# Altium schematic symbol library ANX58XX.SchLib: 2 symbols
Pins are listed as number, name and electrical type; pins without a type are passive.

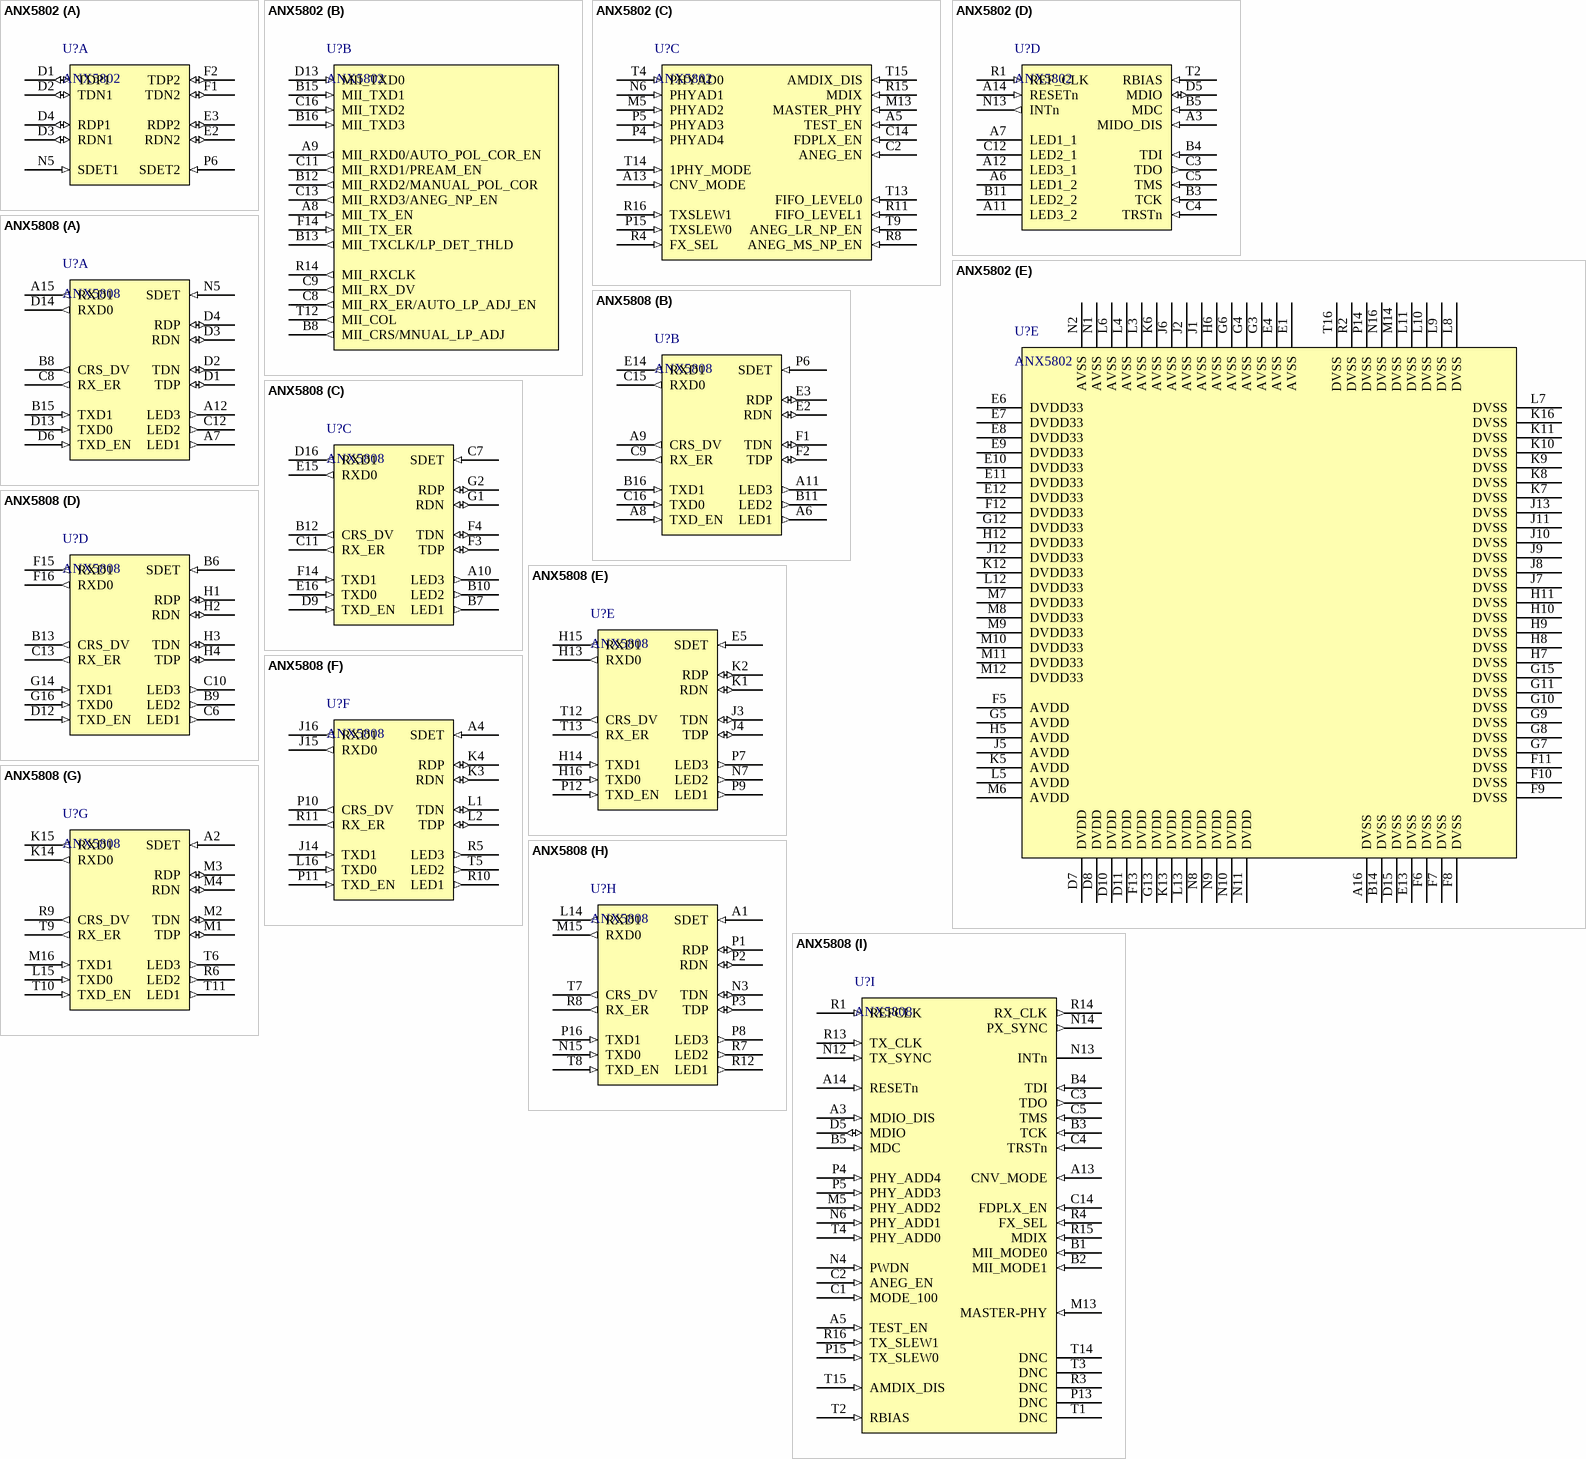
[diagram p0: symbols ANX5802 to ANX5808]

## ANX5802
designator U?
footprint 256BGA (BGA FOR ANX58XX)
part A pins: D1 TDP1 (io), D2 TDN1 (io), D3 RDN1 (io), D4 RDP1 (io), E2 RDN2 (io), E3 RDP2 (io), F1 TDN2 (io), F2 TDP2 (io), N5 SDET1 (in), P6 SDET2 (in)
part B pins: A8 MII_TX_EN (in), A9 MII_RXD0/AUTO_POL_COR_EN (out), B8 MII_CRS/MNUAL_LP_ADJ (out), B12 MII_RXD2/MANUAL_POL_COR (out), B13 MII_TXCLK/LP_DET_THLD (out), B15 MII_TXD1 (in), B16 MII_TXD3 (in), C8 MII_RX_ER/AUTO_LP_ADJ_EN (out), C9 MII_RX_DV (out), C11 MII_RXD1/PREAM_EN (out), C13 MII_RXD3/ANEG_NP_EN (out), C16 MII_TXD2 (in), D13 MII_TXD0 (in), F14 MII_TX_ER (in), R14 MII_RXCLK (out), T12 MII_COL (out)
part C pins: A5 TEST_EN (in), A13 CNV_MODE (in), C2 ANEG_EN (in), C14 FDPLX_EN (in), M5 PHYAD2 (in), M13 MASTER_PHY (in), N6 PHYAD1 (in), P4 PHYAD4 (in), P5 PHYAD3 (in), P15 TXSLEW0 (in), R4 FX_SEL (in), R8 ANEG_MS_NP_EN (in), R11 FIFO_LEVEL1 (in), R15 MDIX (in), R16 TXSLEW1 (in), T4 PHYAD0 (in), T9 ANEG_LR_NP_EN (in), T13 FIFO_LEVEL0 (in), T14 1PHY_MODE (in), T15 AMDIX_DIS (in)
part D pins: A3 MIDO_DIS (in), A6 LED1_2 (oc), A7 LED1_1 (oc), A11 LED3_2 (oc), A12 LED3_1 (oc), A14 RESETn (in), B3 TCK (in), B4 TDI (in), B5 MDC (in), B11 LED2_2 (oc), C3 TDO (out), C4 TRSTn (in), C5 TMS (in), C12 LED2_1 (oc), D5 MDIO (io), N13 INTn (out), R1 REF_CLK (in), T2 RBIAS (in)
part E pins: A1 DNC (hiz) hidden, A2 DNC (hiz) hidden, A4 DNC (hiz) hidden, A10 DNC (hiz) hidden, A15 DNC (hiz) hidden, A16 DVSS (power), B1 DNC (hiz) hidden, B2 DNC (hiz) hidden, B6 DNC (hiz) hidden, B7 DNC (hiz) hidden, B9 DNC (hiz) hidden, B10 DNC (hiz) hidden, B14 DVSS (power), C6 DNC (hiz) hidden, C7 DNC (hiz) hidden, C10 DNC (hiz) hidden, C15 DNC (hiz) hidden, D6 DNC (hiz) hidden, D7 DVDD (power), D8 DVDD (power), D9 DNC (hiz) hidden, D10 DVDD (power), D11 DVDD (power), D12 DNC (hiz) hidden, D14 DNC (hiz) hidden, D15 DVSS (power), D16 DNC (hiz) hidden, E1 AVSS (power), E4 AVSS (power), E5 DNC (hiz) hidden, E6 DVDD33 (power), E7 DVDD33 (power), E8 DVDD33 (power), E9 DVDD33 (power), E10 DVDD33 (power), E11 DVDD33 (power), E12 DVDD33 (power), E13 DVSS (power), E14 DNC (hiz) hidden, E15 DNC (hiz) hidden, E16 DNC (hiz) hidden, F3 DNC (hiz) hidden, F4 DNC (hiz) hidden, F5 AVDD (power), F6 DVSS (power), F7 DVSS (power), F8 DVSS (power), F9 DVSS (power), F10 DVSS (power), F11 DVSS (power), F12 DVDD33 (power), F13 DVDD (power), F15 DNC (hiz) hidden, F16 DNC (hiz) hidden, G1 DNC (hiz) hidden, G2 DNC (hiz) hidden, G3 AVSS (power), G4 AVSS (power), G5 AVDD (power), G6 AVSS (power), G7 DVSS (power), G8 DVSS (power), G9 DVSS (power), G10 DVSS (power), G11 DVSS (power), G12 DVDD33 (power), G13 DVDD (power), G14 DNC (hiz) hidden, G15 DVSS (power), G16 DNC (hiz) hidden, H1 DNC (hiz) hidden, H2 DNC (hiz) hidden, H3 DNC (hiz) hidden, H4 DNC (hiz) hidden, H5 AVDD (power), H6 AVSS (power), H7 DVSS (power), H8 DVSS (power), H9 DVSS (power), H10 DVSS (power), H11 DVSS (power), H12 DVDD33 (power), H13 DNC (hiz) hidden, H14 DNC (hiz) hidden, H15 DNC (hiz) hidden, H16 DNC (hiz) hidden, J1 AVSS (power), J2 AVSS (power), J3 DNC (hiz) hidden, J4 DNC (hiz) hidden, J5 AVDD (power), J6 AVSS (power), J7 DVSS (power), J8 DVSS (power), J9 DVSS (power), J10 DVSS (power), J11 DVSS (power), J12 DVDD33 (power), J13 DVSS (power), J14 DNC (hiz) hidden, J15 DNC (hiz) hidden, J16 DNC (hiz) hidden, K1 DNC (hiz) hidden, K2 DNC (hiz) hidden, K3 DNC (hiz) hidden, K4 DNC (hiz) hidden, K5 AVDD (power), K6 AVSS (power), K7 DVSS (power), K8 DVSS (power), K9 DVSS (power), K10 DVSS (power), K11 DVSS (power), K12 DVDD33 (power), K13 DVDD (power), K14 DNC (hiz) hidden, K15 DNC (hiz) hidden, K16 DVSS (power), L1 DNC (hiz) hidden, L2 DNC (hiz) hidden, L3 AVSS (power), L4 AVSS (power), L5 AVDD (power), L6 AVSS (power), L7 DVSS (power), L8 DVSS (power), L9 DVSS (power), L10 DVSS (power), L11 DVSS (power), L12 DVDD33 (power), L13 DVDD (power), L14 DNC (hiz) hidden, L15 DNC (hiz) hidden, L16 DNC (hiz) hidden, M1 DNC (hiz) hidden, M2 DNC (hiz) hidden, M3 DNC (hiz) hidden, M4 DNC (hiz) hidden, M6 AVDD (power), M7 DVDD33 (power), M8 DVDD33 (power), M9 DVDD33 (power), M10 DVDD33 (power), M11 DVDD33 (power), M12 DVDD33 (power), M14 DVSS (power), M15 DNC (hiz) hidden, M16 DNC (hiz) hidden, N1 AVSS (power), N2 AVSS (power), N3 DNC (hiz) hidden, N7 DNC (hiz) hidden, N8 DVDD (power), N9 DVDD (power), N10 DVDD (power), N11 DVDD (power), N12 DNC (hiz) hidden, N14 DNC (hiz) hidden, N15 DNC (hiz) hidden, N16 DVSS (power), P1 DNC (hiz) hidden, P2 DNC (hiz) hidden, P3 DNC (hiz) hidden, P7 DNC (hiz) hidden, P8 DNC (hiz) hidden, P9 DNC (hiz) hidden, P10 DNC (hiz) hidden, P11 DNC (hiz) hidden, P12 DNC (hiz) hidden, P13 DNC (hiz) hidden, P14 DVSS (power), P16 DNC (hiz) hidden, R2 DVSS (power), R3 DNC (hiz) hidden, R5 DNC (hiz) hidden, R6 DNC (hiz) hidden, R7 DNC (hiz) hidden, R9 DNC (hiz) hidden, R10 DNC (hiz) hidden, R12 DNC (hiz) hidden, R13 DNC (hiz) hidden, T1 DNC (hiz) hidden, T3 DNC (hiz) hidden, T5 DNC (hiz) hidden, T6 DNC (hiz) hidden, T7 DNC (hiz) hidden, T8 DNC (hiz) hidden, T10 DNC (hiz) hidden, T11 DNC (hiz) hidden, T16 DVSS (power)

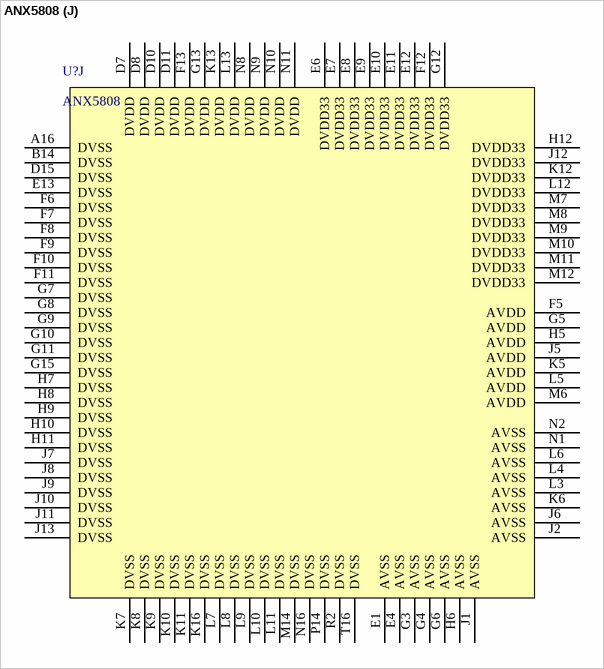
[diagram p1: symbol ANX5808]

## ANX5808
designator U?
footprint 256BGA (BGA FOR ANX58XX)
part A pins: A7 LED1 (out), A12 LED3 (out), A15 RXD1 (out), B8 CRS_DV (out), B15 TXD1 (in), C8 RX_ER (out), C12 LED2 (out), D1 TDP (io), D2 TDN (io), D3 RDN (io), D4 RDP (io), D6 TXD_EN (in), D13 TXD0 (in), D14 RXD0 (out), N5 SDET (in)
part B pins: A6 LED1 (out), A8 TXD_EN (in), A9 CRS_DV (out), A11 LED3 (out), B11 LED2 (out), B16 TXD1 (in), C9 RX_ER (out), C15 RXD0 (out), C16 TXD0 (in), E2 RDN (io), E3 RDP (io), E14 RXD1 (out), F1 TDN (io), F2 TDP (io), P6 SDET (in)
part C pins: A10 LED3 (out), B7 LED1 (out), B10 LED2 (out), B12 CRS_DV (out), C7 SDET (in), C11 RX_ER (out), D9 TXD_EN (in), D16 RXD1 (out), E15 RXD0 (out), E16 TXD0 (in), F3 TDP (io), F4 TDN (io), F14 TXD1 (in), G1 RDN (io), G2 RDP (io)
part D pins: B6 SDET (in), B9 LED2 (out), B13 CRS_DV (out), C6 LED1 (out), C10 LED3 (out), C13 RX_ER (out), D12 TXD_EN (in), F15 RXD1 (out), F16 RXD0 (out), G14 TXD1 (in), G16 TXD0 (in), H1 RDP (io), H2 RDN (io), H3 TDN (io), H4 TDP (io)
part E pins: E5 SDET (in), H13 RXD0 (out), H14 TXD1 (in), H15 RXD1 (out), H16 TXD0 (in), J3 TDN (io), J4 TDP (io), K1 RDN (io), K2 RDP (io), N7 LED2 (out), P7 LED3 (out), P9 LED1 (out), P12 TXD_EN (in), T12 CRS_DV (out), T13 RX_ER (out)
part F pins: A4 SDET (in), J14 TXD1 (in), J15 RXD0 (out), J16 RXD1 (out), K3 RDN (io), K4 RDP (io), L1 TDN (io), L2 TDP (io), L16 TXD0 (in), P10 CRS_DV (out), P11 TXD_EN (in), R5 LED3 (out), R10 LED1 (out), R11 RX_ER (out), T5 LED2 (out)
part G pins: A2 SDET (in), K14 RXD0 (out), K15 RXD1 (out), L15 TXD0 (in), M1 TDP (io), M2 TDN (io), M3 RDP (io), M4 RDN (io), M16 TXD1 (in), R6 LED2 (out), R9 CRS_DV (out), T6 LED3 (out), T9 RX_ER (out), T10 TXD_EN (in), T11 LED1 (out)
part H pins: A1 SDET (in), L14 RXD1 (out), M15 RXD0 (out), N3 TDN (io), N15 TXD0 (in), P1 RDP (io), P2 RDN (io), P3 TDP (io), P8 LED3 (out), P16 TXD1 (in), R7 LED2 (out), R8 RX_ER (out), R12 LED1 (out), T7 CRS_DV (out), T8 TXD_EN (in)
part I pins: A3 MDIO_DIS (in), A5 TEST_EN (in), A13 CNV_MODE (in), A14 RESETn (in), B1 MII_MODE0 (in), B2 MII_MODE1 (in), B3 TCK (in), B4 TDI (in), B5 MDC (in), C1 MODE_100 (in), C2 ANEG_EN (in), C3 TDO (out), C4 TRSTn (in), C5 TMS (in), C14 FDPLX_EN (in), D5 MDIO (io), M5 PHY_ADD2 (in), M13 MASTER-PHY (in), N4 PWDN (in), N6 PHY_ADD1 (in), N12 TX_SYNC (in), N13 INTn (oc), N14 PX_SYNC (out), P4 PHY_ADD4 (in), P5 PHY_ADD3 (in), P13 DNC (hiz), P15 TX_SLEW0 (in), R1 REFCLK (in), R3 DNC (hiz), R4 FX_SEL (in), R13 TX_CLK (in), R14 RX_CLK (out), R15 MDIX (in), R16 TX_SLEW1 (in), T1 DNC (hiz), T2 RBIAS (in), T3 DNC (hiz), T4 PHY_ADD0 (in), T14 DNC (hiz), T15 AMDIX_DIS (in)
part J pins: A16 DVSS (power), B14 DVSS (power), D7 DVDD (power), D8 DVDD (power), D10 DVDD (power), D11 DVDD (power), D15 DVSS (power), E1 AVSS (power), E4 AVSS (power), E6 DVDD33 (power), E7 DVDD33 (power), E8 DVDD33 (power), E9 DVDD33 (power), E10 DVDD33 (power), E11 DVDD33 (power), E12 DVDD33 (power), E13 DVSS (power), F5 AVDD (power), F6 DVSS (power), F7 DVSS (power), F8 DVSS (power), F9 DVSS (power), F10 DVSS (power), F11 DVSS (power), F12 DVDD33 (power), F13 DVDD (power), G3 AVSS (power), G4 AVSS (power), G5 AVDD (power), G6 AVSS (power), G7 DVSS (power), G8 DVSS (power), G9 DVSS (power), G10 DVSS (power), G11 DVSS (power), G12 DVDD33 (power), G13 DVDD (power), G15 DVSS (power), H5 AVDD (power), H6 AVSS (power), H7 DVSS (power), H8 DVSS (power), H9 DVSS (power), H10 DVSS (power), H11 DVSS (power), H12 DVDD33 (power), J1 AVSS (power), J2 AVSS (power), J5 AVDD (power), J6 AVSS (power), J7 DVSS (power), J8 DVSS (power), J9 DVSS (power), J10 DVSS (power), J11 DVSS (power), J12 DVDD33 (power), J13 DVSS (power), K5 AVDD (power), K6 AVSS (power), K7 DVSS (power), K8 DVSS (power), K9 DVSS (power), K10 DVSS (power), K11 DVSS (power), K12 DVDD33 (power), K13 DVDD (power), K16 DVSS (power), L3 AVSS (power), L4 AVSS (power), L5 AVDD (power), L6 AVSS (power), L7 DVSS (power), L8 DVSS (power), L9 DVSS (power), L10 DVSS (power), L11 DVSS (power), L12 DVDD33 (power), L13 DVDD (power), M6 AVDD (power), M7 DVDD33 (power), M8 DVDD33 (power), M9 DVDD33 (power), M10 DVDD33 (power), M11 DVDD33 (power), M12 DVDD33 (power), M14 DVSS (power), N1 AVSS (power), N2 AVSS (power), N8 DVDD (power), N9 DVDD (power), N10 DVDD (power), N11 DVDD (power), N16 DVSS (power), P14 DVSS (power), R2 DVSS (power), T16 DVSS (power)